# Altium schematic symbol library RK3399Pro.SchLib: 1 symbol
Pins are listed as number, name and electrical type; pins without a type are passive.

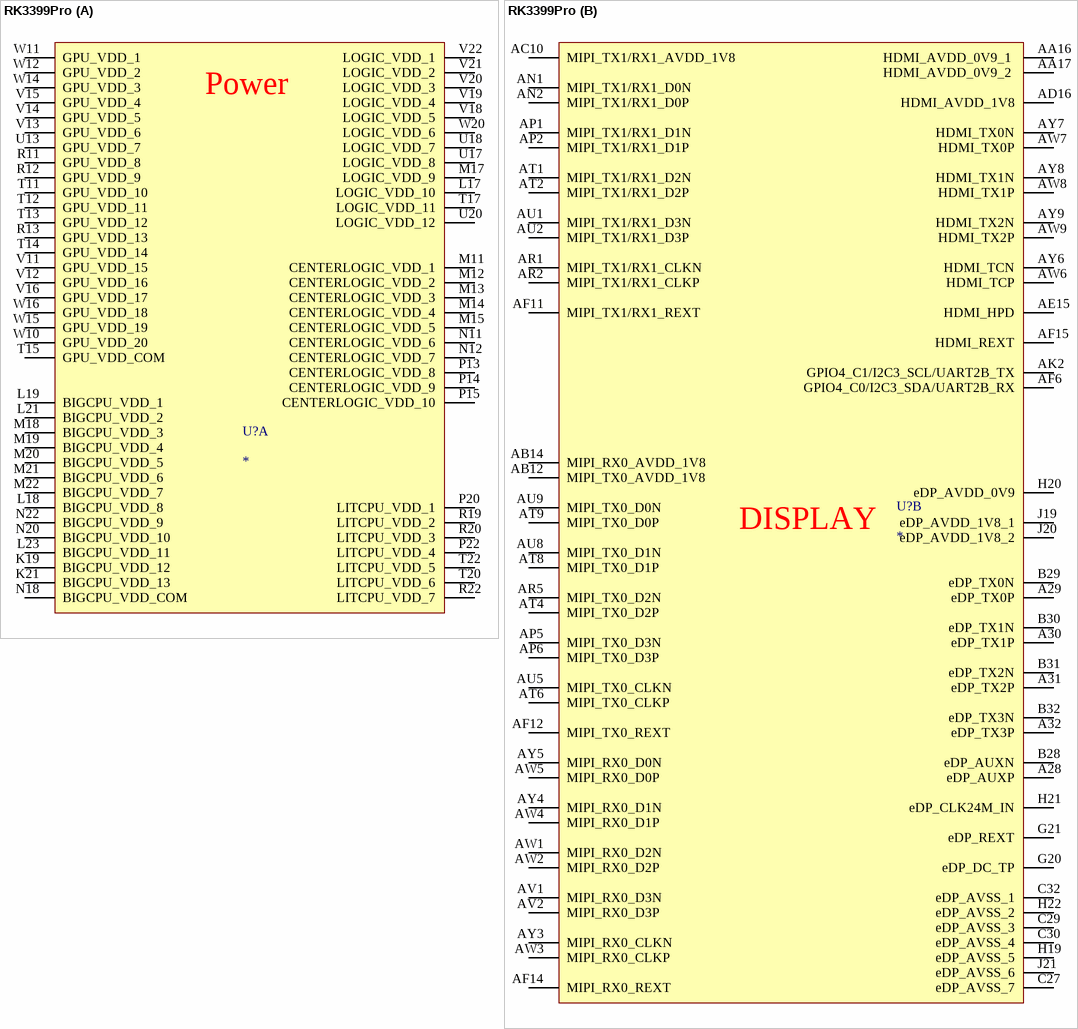
[diagram p0: symbol RK3399Pro]

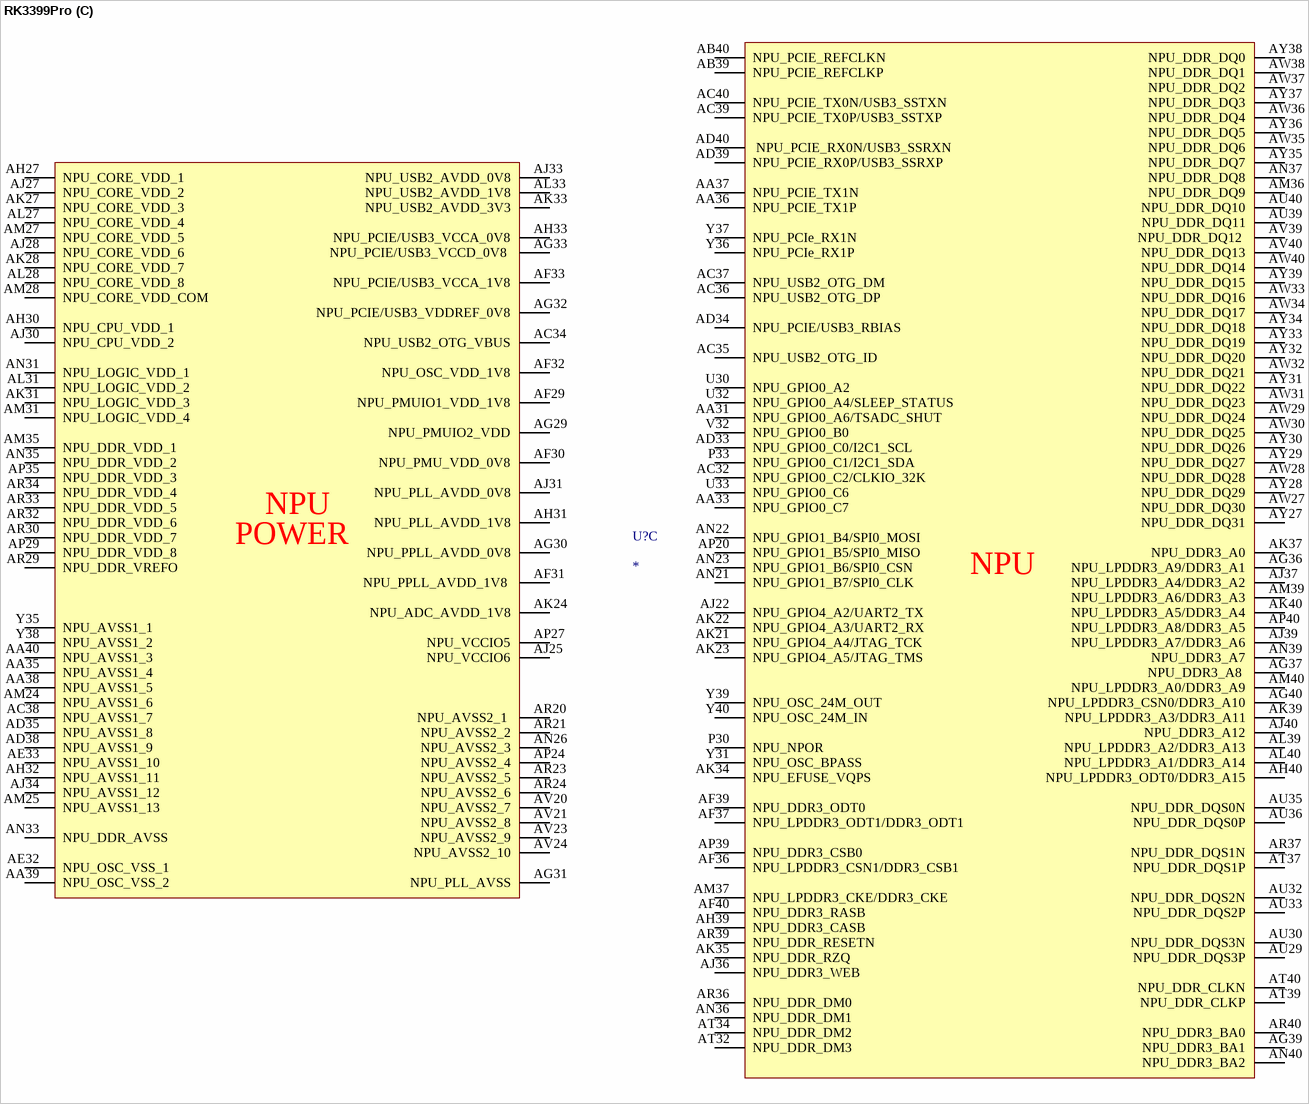
[diagram p1: symbol RK3399Pro]

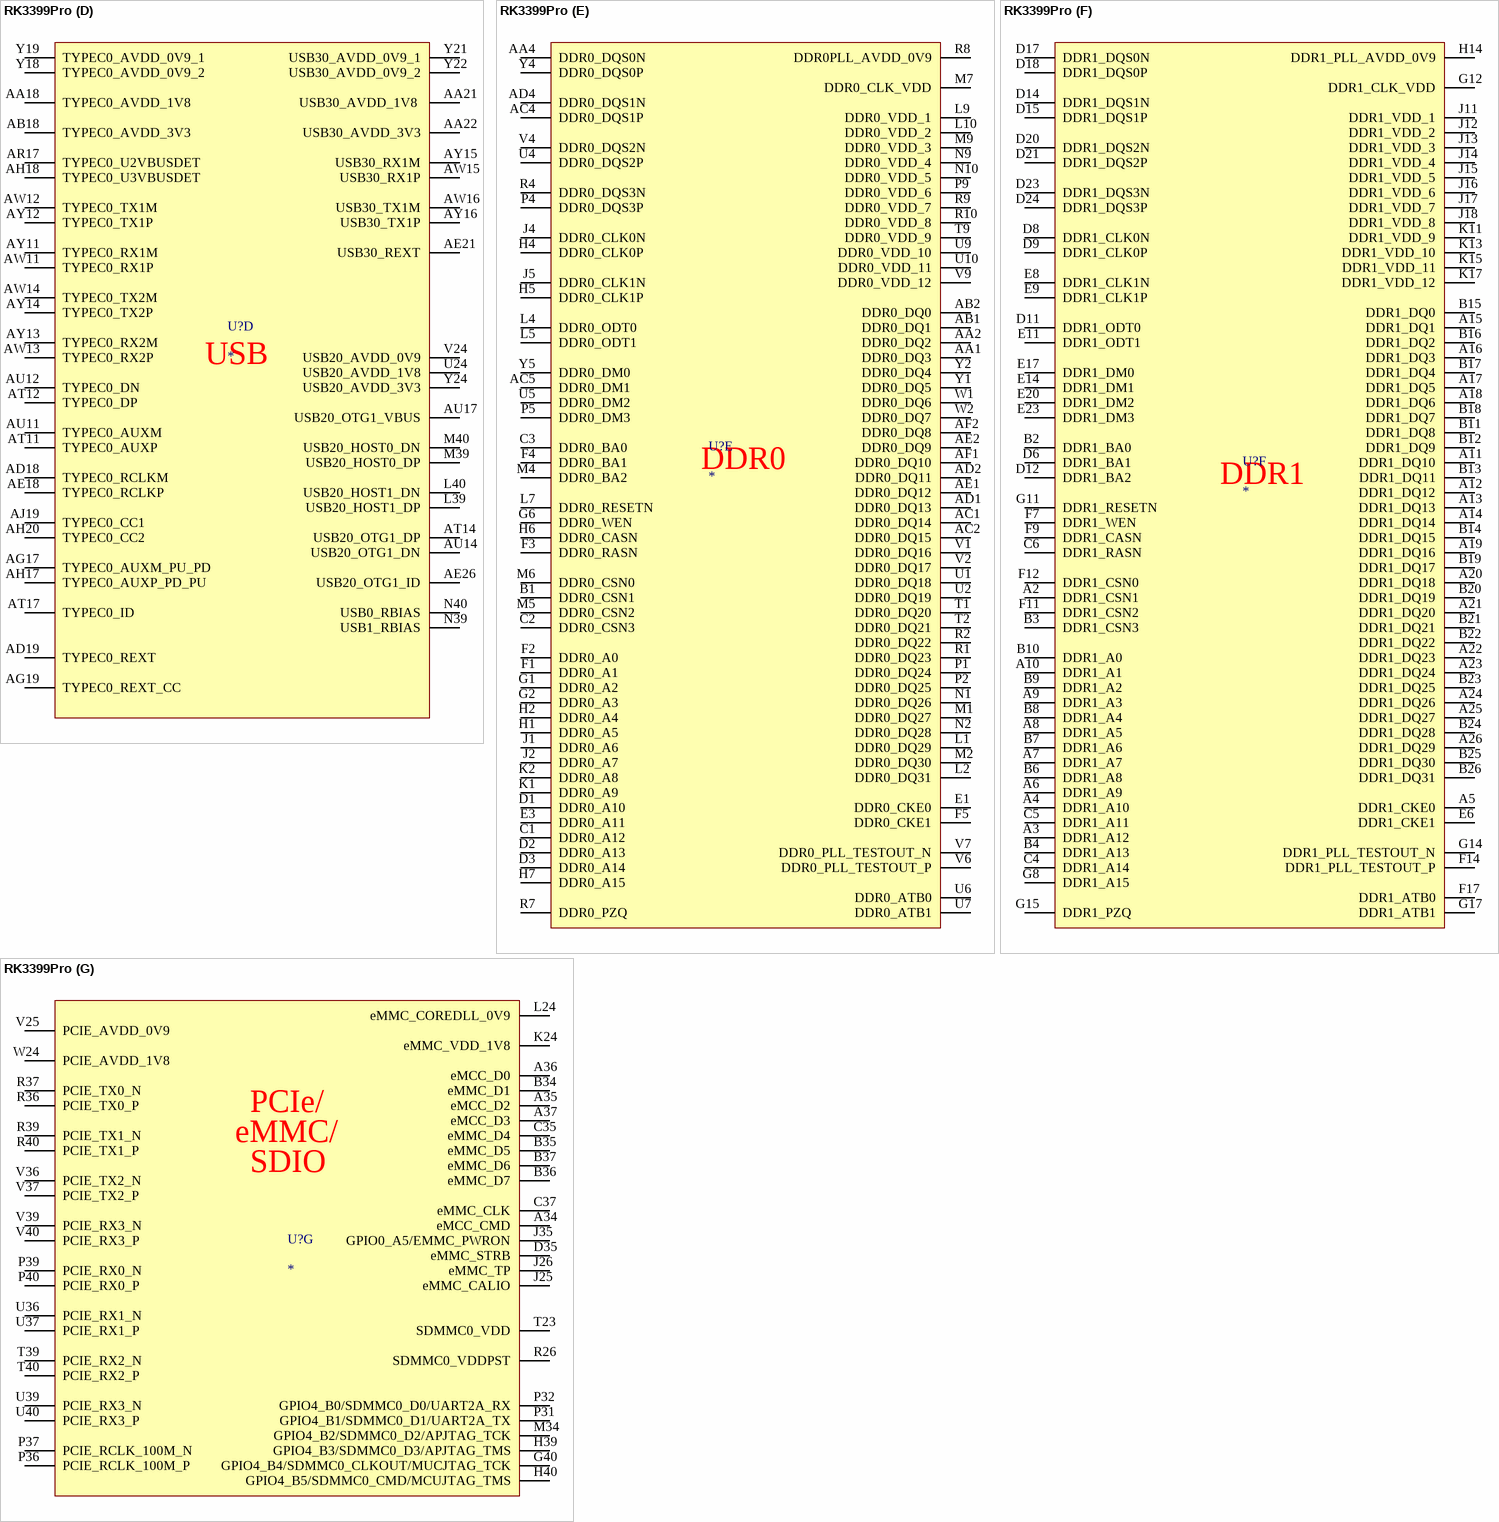
[diagram p2: symbol RK3399Pro]

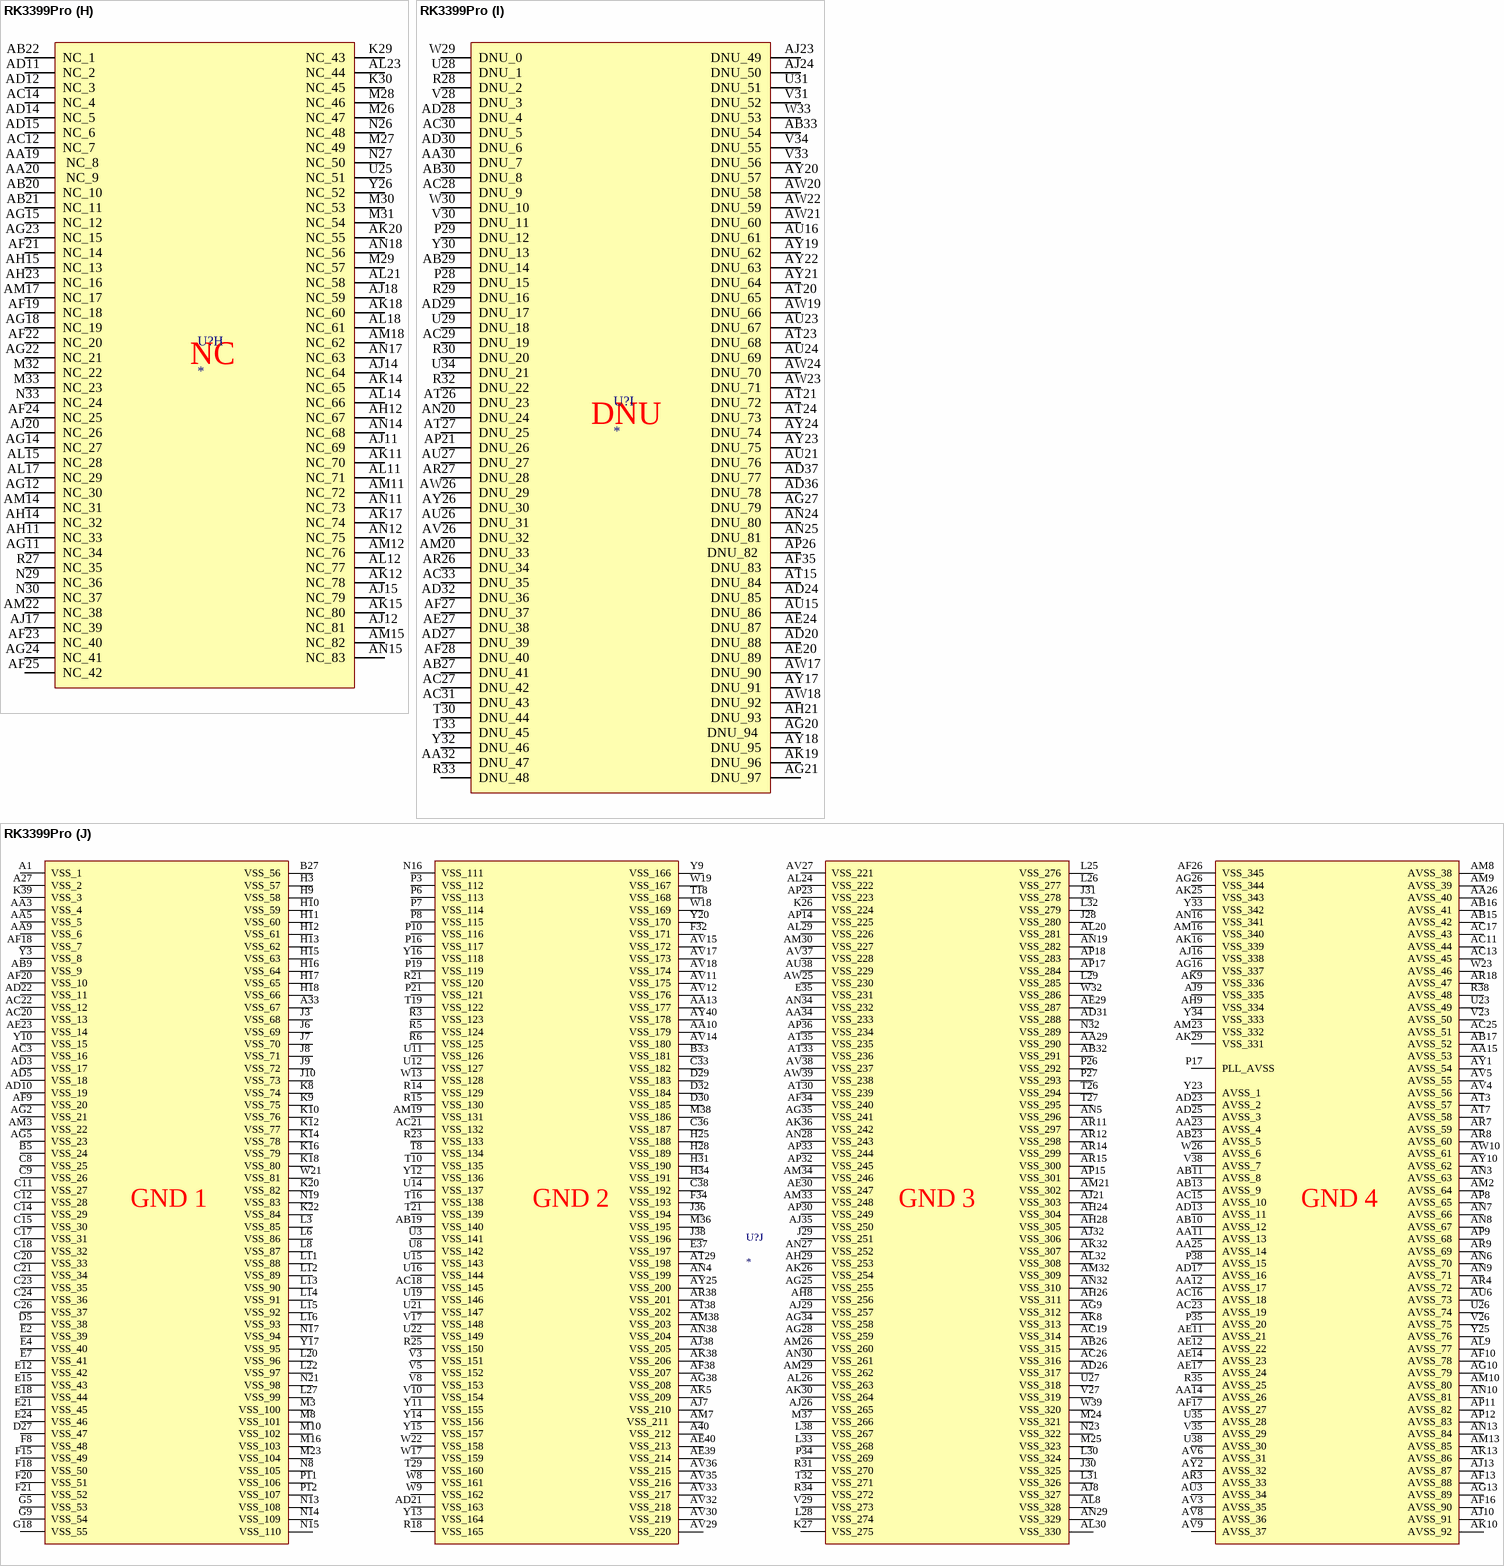
[diagram p3: symbol RK3399Pro]

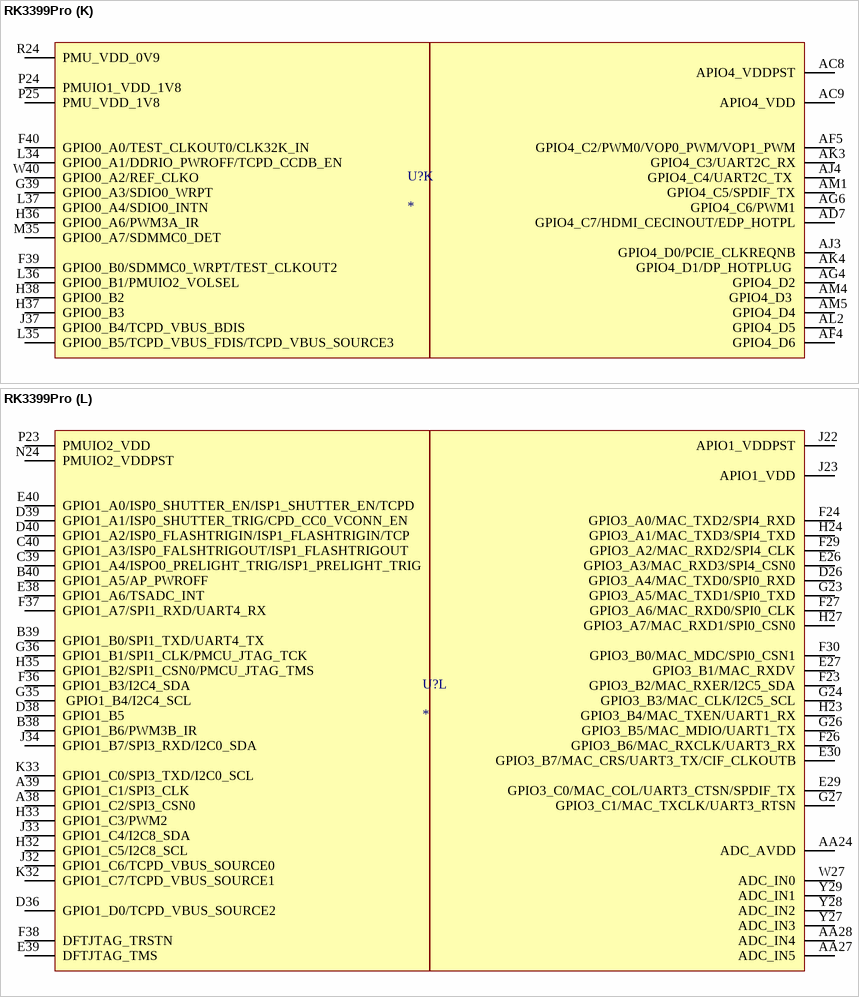
[diagram p4: symbol RK3399Pro]

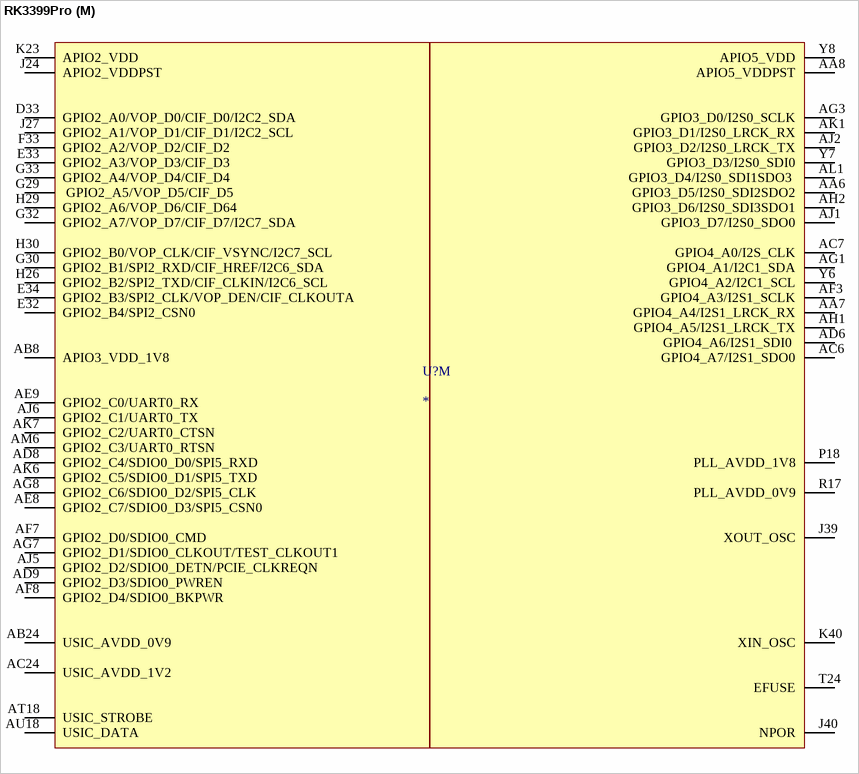
[diagram p5: symbol RK3399Pro]

## RK3399Pro
designator U?
part A pins: K19 BIGCPU_VDD_12, K21 BIGCPU_VDD_13, L17 LOGIC_VDD_10, L18 BIGCPU_VDD_8, L19 BIGCPU_VDD_1, L21 BIGCPU_VDD_2, L23 BIGCPU_VDD_11, M11 CENTERLOGIC_VDD_1, M12 CENTERLOGIC_VDD_2, M13 CENTERLOGIC_VDD_3, M14 CENTERLOGIC_VDD_4, M15 CENTERLOGIC_VDD_5, M17 LOGIC_VDD_9, M18 BIGCPU_VDD_3, M19 BIGCPU_VDD_4, M20 BIGCPU_VDD_5, M21 BIGCPU_VDD_6, M22 BIGCPU_VDD_7, N11 CENTERLOGIC_VDD_6, N12 CENTERLOGIC_VDD_7, N18 BIGCPU_VDD_COM, N20 BIGCPU_VDD_10, N22 BIGCPU_VDD_9, P13 CENTERLOGIC_VDD_8, P14 CENTERLOGIC_VDD_9, P15 CENTERLOGIC_VDD_10, P20 LITCPU_VDD_1, P22 LITCPU_VDD_4, R11 GPU_VDD_8, R12 GPU_VDD_9, R13 GPU_VDD_13, R19 LITCPU_VDD_2, R20 LITCPU_VDD_3, R22 LITCPU_VDD_7, T11 GPU_VDD_10, T12 GPU_VDD_11, T13 GPU_VDD_12, T14 GPU_VDD_14, T15 GPU_VDD_COM, T17 LOGIC_VDD_11, T20 LITCPU_VDD_6, T22 LITCPU_VDD_5, U13 GPU_VDD_7, U17 LOGIC_VDD_8, U18 LOGIC_VDD_7, U20 LOGIC_VDD_12, V11 GPU_VDD_15, V12 GPU_VDD_16, V13 GPU_VDD_6, V14 GPU_VDD_5, V15 GPU_VDD_4, V16 GPU_VDD_17, V18 LOGIC_VDD_5, V19 LOGIC_VDD_4, V20 LOGIC_VDD_3, V21 LOGIC_VDD_2, V22 LOGIC_VDD_1, W10 GPU_VDD_20, W11 GPU_VDD_1, W12 GPU_VDD_2, W14 GPU_VDD_3, W15 GPU_VDD_19, W16 GPU_VDD_18, W20 LOGIC_VDD_6
part B pins: A28 eDP_AUXP, A29 eDP_TX0P, A30 eDP_TX1P, A31 eDP_TX2P, A32 eDP_TX3P, AA16 HDMI_AVDD_0V9_1 , AA17 HDMI_AVDD_0V9_2 , AB12 MIPI_TX0_AVDD_1V8 , AB14 MIPI_RX0_AVDD_1V8, AC10 MIPI_TX1/RX1_AVDD_1V8, AD16 HDMI_AVDD_1V8, AE15 HDMI_HPD, AF6 GPIO4_C0/I2C3_SDA/UART2B_RX, AF11 MIPI_TX1/RX1_REXT, AF12 MIPI_TX0_REXT, AF14 MIPI_RX0_REXT, AF15 HDMI_REXT, AK2 GPIO4_C1/I2C3_SCL/UART2B_TX, AN1 MIPI_TX1/RX1_D0N, AN2 MIPI_TX1/RX1_D0P, AP1 MIPI_TX1/RX1_D1N, AP2 MIPI_TX1/RX1_D1P, AP5 MIPI_TX0_D3N, AP6 MIPI_TX0_D3P, AR1 MIPI_TX1/RX1_CLKN, AR2 MIPI_TX1/RX1_CLKP, AR5 MIPI_TX0_D2N, AT1 MIPI_TX1/RX1_D2N, AT2 MIPI_TX1/RX1_D2P, AT4 MIPI_TX0_D2P, AT6 MIPI_TX0_CLKP, AT8 MIPI_TX0_D1P, AT9 MIPI_TX0_D0P, AU1 MIPI_TX1/RX1_D3N, AU2 MIPI_TX1/RX1_D3P, AU5 MIPI_TX0_CLKN, AU8 MIPI_TX0_D1N, AU9 MIPI_TX0_D0N, AV1 MIPI_RX0_D3N, AV2 MIPI_RX0_D3P, AW1 MIPI_RX0_D2N, AW2 MIPI_RX0_D2P, AW3 MIPI_RX0_CLKP, AW4 MIPI_RX0_D1P, AW5 MIPI_RX0_D0P, AW6 HDMI_TCP, AW7 HDMI_TX0P, AW8 HDMI_TX1P, AW9 HDMI_TX2P, AY3 MIPI_RX0_CLKN, AY4 MIPI_RX0_D1N, AY5 MIPI_RX0_D0N, AY6 HDMI_TCN, AY7 HDMI_TX0N, AY8 HDMI_TX1N, AY9 HDMI_TX2N, B28 eDP_AUXN, B29 eDP_TX0N, B30 eDP_TX1N, B31 eDP_TX2N, B32 eDP_TX3N, C27 eDP_AVSS_7, C29 eDP_AVSS_3, C30 eDP_AVSS_4, C32 eDP_AVSS_1, G20 eDP_DC_TP, G21 eDP_REXT, H19 eDP_AVSS_5, H20 eDP_AVDD_0V9, H21 eDP_CLK24M_IN, H22 eDP_AVSS_2, J19 eDP_AVDD_1V8_1, J20 eDP_AVDD_1V8_2, J21 eDP_AVSS_6
part C pins: AA31 NPU_GPIO0_A6/TSADC_SHUT, AA33 NPU_GPIO0_C7 , AA35 NPU_AVSS1_4, AA36 NPU_PCIE_TX1P, AA37 NPU_PCIE_TX1N, AA38 NPU_AVSS1_5, AA39 NPU_OSC_VSS_2, AA40 NPU_AVSS1_3, AB39 NPU_PCIE_REFCLKP , AB40 NPU_PCIE_REFCLKN , AC32 NPU_GPIO0_C2/CLKIO_32K, AC34 NPU_USB2_OTG_VBUS, AC35 NPU_USB2_OTG_ID, AC36 NPU_USB2_OTG_DP , AC37 NPU_USB2_OTG_DM , AC38 NPU_AVSS1_7, AC39 NPU_PCIE_TX0P/USB3_SSTXP, AC40 NPU_PCIE_TX0N/USB3_SSTXN, AD33 NPU_GPIO0_C0/I2C1_SCL, AD34 NPU_PCIE/USB3_RBIAS, AD35 NPU_AVSS1_8, AD38 NPU_AVSS1_9, AD39 NPU_PCIE_RX0P/USB3_SSRXP, AD40  NPU_PCIE_RX0N/USB3_SSRXN, AE32 NPU_OSC_VSS_1, AE33 NPU_AVSS1_10, AF29 NPU_PMUIO1_VDD_1V8, AF30 NPU_PMU_VDD_0V8, AF31 NPU_PPLL_AVDD_1V8 , AF32 NPU_OSC_VDD_1V8, AF33 NPU_PCIE/USB3_VCCA_1V8, AF36 NPU_LPDDR3_CSN1/DDR3_CSB1, AF37 NPU_LPDDR3_ODT1/DDR3_ODT1, AF39 NPU_DDR3_ODT0, AF40 NPU_DDR3_RASB, AG29 NPU_PMUIO2_VDD, AG30 NPU_PPLL_AVDD_0V8, AG31 NPU_PLL_AVSS, AG32 NPU_PCIE/USB3_VDDREF_0V8, AG33 NPU_PCIE/USB3_VCCD_0V8 , AG36 NPU_LPDDR3_A9/DDR3_A1, AG37 NPU_DDR3_A8 , AG39 NPU_DDR3_BA1, AG40 NPU_LPDDR3_CSN0/DDR3_A10, AH27 NPU_CORE_VDD_1, AH30 NPU_CPU_VDD_1, AH31 NPU_PLL_AVDD_1V8, AH32 NPU_AVSS1_11, AH33 NPU_PCIE/USB3_VCCA_0V8, AH39 NPU_DDR3_CASB, AH40 NPU_LPDDR3_ODT0/DDR3_A15, AJ22 NPU_GPIO4_A2/UART2_TX, AJ25 NPU_VCCIO6, AJ27 NPU_CORE_VDD_2, AJ28 NPU_CORE_VDD_6, AJ30 NPU_CPU_VDD_2, AJ31 NPU_PLL_AVDD_0V8, AJ33 NPU_USB2_AVDD_0V8, AJ34 NPU_AVSS1_12, AJ36 NPU_DDR3_WEB, AJ37 NPU_LPDDR3_A4/DDR3_A2, AJ39 NPU_LPDDR3_A7/DDR3_A6, AJ40 NPU_DDR3_A12, AK21 NPU_GPIO4_A4/JTAG_TCK , AK22 NPU_GPIO4_A3/UART2_RX, AK23 NPU_GPIO4_A5/JTAG_TMS, AK24 NPU_ADC_AVDD_1V8, AK27 NPU_CORE_VDD_3, AK28 NPU_CORE_VDD_7, AK31 NPU_LOGIC_VDD_3, AK33 NPU_USB2_AVDD_3V3, AK34 NPU_EFUSE_VQPS, AK35 NPU_DDR_RZQ, AK37 NPU_DDR3_A0, AK39 NPU_LPDDR3_A3/DDR3_A11, AK40 NPU_LPDDR3_A5/DDR3_A4, AL27 NPU_CORE_VDD_4, AL28 NPU_CORE_VDD_8, AL31 NPU_LOGIC_VDD_2, AL33 NPU_USB2_AVDD_1V8, AL39 NPU_LPDDR3_A2/DDR3_A13, AL40 NPU_LPDDR3_A1/DDR3_A14, AM24 NPU_AVSS1_6, AM25 NPU_AVSS1_13, AM27 NPU_CORE_VDD_5, AM28 NPU_CORE_VDD_COM, AM31 NPU_LOGIC_VDD_4, AM35 NPU_DDR_VDD_1, AM36 NPU_DDR_DQ9, AM37 NPU_LPDDR3_CKE/DDR3_CKE, AM39 NPU_LPDDR3_A6/DDR3_A3, AM40 NPU_LPDDR3_A0/DDR3_A9, AN21 NPU_GPIO1_B7/SPI0_CLK, AN22 NPU_GPIO1_B4/SPI0_MOSI , AN23 NPU_GPIO1_B6/SPI0_CSN , AN26 NPU_AVSS2_3, AN31 NPU_LOGIC_VDD_1, AN33 NPU_DDR_AVSS, AN35 NPU_DDR_VDD_2, AN36 NPU_DDR_DM1, AN37 NPU_DDR_DQ8, AN39 NPU_DDR3_A7, AN40 NPU_DDR3_BA2, AP20 NPU_GPIO1_B5/SPI0_MISO , AP24 NPU_AVSS2_4, AP27 NPU_VCCIO5, AP29 NPU_DDR_VDD_8 , AP35 NPU_DDR_VDD_3, AP39 NPU_DDR3_CSB0 , AP40 NPU_LPDDR3_A8/DDR3_A5, AR20 NPU_AVSS2_1 , AR21 NPU_AVSS2_2, AR23 NPU_AVSS2_5, AR24 NPU_AVSS2_6, AR29 NPU_DDR_VREFO, AR30 NPU_DDR_VDD_7, AR32 NPU_DDR_VDD_6, AR33 NPU_DDR_VDD_5, AR34 NPU_DDR_VDD_4, AR36 NPU_DDR_DM0, AR37 NPU_DDR_DQS1N, AR39 NPU_DDR_RESETN, AR40 NPU_DDR3_BA0, AT32 NPU_DDR_DM3, AT34 NPU_DDR_DM2, AT37 NPU_DDR_DQS1P, AT39 NPU_DDR_CLKP, AT40 NPU_DDR_CLKN, AU29 NPU_DDR_DQS3P, AU30 NPU_DDR_DQS3N, AU32 NPU_DDR_DQS2N, AU33 NPU_DDR_DQS2P, AU35 NPU_DDR_DQS0N, AU36 NPU_DDR_DQS0P, AU39 NPU_DDR_DQ11, AU40 NPU_DDR_DQ10, AV20 NPU_AVSS2_7, AV21 NPU_AVSS2_8, AV23 NPU_AVSS2_9, AV24 NPU_AVSS2_10, AV39 NPU_DDR_DQ12 , AV40 NPU_DDR_DQ13, AW27 NPU_DDR_DQ30, AW28 NPU_DDR_DQ28, AW29 NPU_DDR_DQ24, AW30 NPU_DDR_DQ25, AW31 NPU_DDR_DQ23, AW32 NPU_DDR_DQ21, AW33 NPU_DDR_DQ16, AW34 NPU_DDR_DQ17, AW35 NPU_DDR_DQ6, AW36 NPU_DDR_DQ4, AW37 NPU_DDR_DQ2, AW38 NPU_DDR_DQ1, AW40 NPU_DDR_DQ14, AY27 NPU_DDR_DQ31, AY28 NPU_DDR_DQ29, AY29 NPU_DDR_DQ27, AY30 NPU_DDR_DQ26, AY31 NPU_DDR_DQ22, AY32 NPU_DDR_DQ20, AY33 NPU_DDR_DQ19, AY34 NPU_DDR_DQ18, AY35 NPU_DDR_DQ7, AY36 NPU_DDR_DQ5, AY37 NPU_DDR_DQ3, AY38 NPU_DDR_DQ0, AY39 NPU_DDR_DQ15, P30 NPU_NPOR, P33 NPU_GPIO0_C1/I2C1_SDA, U30 NPU_GPIO0_A2, U32 NPU_GPIO0_A4/SLEEP_STATUS, U33 NPU_GPIO0_C6, V32 NPU_GPIO0_B0, Y31 NPU_OSC_BPASS, Y35 NPU_AVSS1_1, Y36 NPU_PCIe_RX1P, Y37 NPU_PCIe_RX1N, Y38 NPU_AVSS1_2, Y39 NPU_OSC_24M_OUT, Y40 NPU_OSC_24M_IN
part D pins: AA18 TYPEC0_AVDD_1V8 , AA21 USB30_AVDD_1V8 , AA22 USB30_AVDD_3V3, AB18 TYPEC0_AVDD_3V3, AD18 TYPEC0_RCLKM, AD19 TYPEC0_REXT, AE18 TYPEC0_RCLKP, AE21 USB30_REXT, AE26 USB20_OTG1_ID, AG17 TYPEC0_AUXM_PU_PD, AG19 TYPEC0_REXT_CC, AH17 TYPEC0_AUXP_PD_PU, AH18 TYPEC0_U3VBUSDET, AH20 TYPEC0_CC2, AJ19 TYPEC0_CC1 , AR17 TYPEC0_U2VBUSDET, AT11 TYPEC0_AUXP, AT12 TYPEC0_DP, AT14 USB20_OTG1_DP, AT17 TYPEC0_ID, AU11 TYPEC0_AUXM, AU12 TYPEC0_DN, AU14 USB20_OTG1_DN, AU17 USB20_OTG1_VBUS, AW11 TYPEC0_RX1P, AW12 TYPEC0_TX1M, AW13 TYPEC0_RX2P, AW14 TYPEC0_TX2M, AW15 USB30_RX1P, AW16 USB30_TX1M, AY11 TYPEC0_RX1M, AY12 TYPEC0_TX1P, AY13 TYPEC0_RX2M, AY14 TYPEC0_TX2P, AY15 USB30_RX1M, AY16 USB30_TX1P, L39 USB20_HOST1_DP, L40 USB20_HOST1_DN, M39 USB20_HOST0_DP, M40 USB20_HOST0_DN, N39 USB1_RBIAS, N40 USB0_RBIAS, U24 USB20_AVDD_1V8, V24 USB20_AVDD_0V9, Y18 TYPEC0_AVDD_0V9_2, Y19 TYPEC0_AVDD_0V9_1, Y21 USB30_AVDD_0V9_1, Y22 USB30_AVDD_0V9_2, Y24 USB20_AVDD_3V3
part E pins: AA1 DDR0_DQ3, AA2 DDR0_DQ2, AA4 DDR0_DQS0N, AB1 DDR0_DQ1, AB2 DDR0_DQ0, AC1 DDR0_DQ14, AC2 DDR0_DQ15, AC4 DDR0_DQS1P, AC5 DDR0_DM1, AD1 DDR0_DQ13, AD2 DDR0_DQ11, AD4 DDR0_DQS1N, AE1 DDR0_DQ12, AE2 DDR0_DQ9, AF1 DDR0_DQ10, AF2 DDR0_DQ8, B1 DDR0_CSN1, C1 DDR0_A12, C2 DDR0_CSN3, C3 DDR0_BA0, D1 DDR0_A10, D2 DDR0_A13, D3 DDR0_A14, E1 DDR0_CKE0, E3 DDR0_A11, F1 DDR0_A1, F2 DDR0_A0, F3 DDR0_RASN, F4 DDR0_BA1, F5 DDR0_CKE1, G1 DDR0_A2, G2 DDR0_A3, G6 DDR0_WEN, H1 DDR0_A5, H2 DDR0_A4, H4 DDR0_CLK0P, H5 DDR0_CLK1P, H6 DDR0_CASN, H7 DDR0_A15, J1 DDR0_A6, J2 DDR0_A7, J4 DDR0_CLK0N, J5 DDR0_CLK1N, K1 DDR0_A9, K2 DDR0_A8, L1 DDR0_DQ29, L2 DDR0_DQ31, L4 DDR0_ODT0, L5 DDR0_ODT1, L7 DDR0_RESETN, L9 DDR0_VDD_1, L10 DDR0_VDD_2, M1 DDR0_DQ27, M2 DDR0_DQ30, M4 DDR0_BA2, M5 DDR0_CSN2, M6 DDR0_CSN0, M7 DDR0_CLK_VDD, M9 DDR0_VDD_3, N1 DDR0_DQ26, N2 DDR0_DQ28, N9 DDR0_VDD_4, N10 DDR0_VDD_5, P1 DDR0_DQ24, P2 DDR0_DQ25, P4 DDR0_DQS3P, P5 DDR0_DM3, P9 DDR0_VDD_6, R1 DDR0_DQ23, R2 DDR0_DQ22, R4 DDR0_DQS3N, R7 DDR0_PZQ, R8 DDR0PLL_AVDD_0V9, R9 DDR0_VDD_7, R10 DDR0_VDD_8, T1 DDR0_DQ20, T2 DDR0_DQ21, T9 DDR0_VDD_9, U1 DDR0_DQ18, U2 DDR0_DQ19, U4 DDR0_DQS2P, U5 DDR0_DM2, U6 DDR0_ATB0, U7 DDR0_ATB1, U9 DDR0_VDD_10, U10 DDR0_VDD_11, V1 DDR0_DQ16, V2 DDR0_DQ17, V4 DDR0_DQS2N, V6 DDR0_PLL_TESTOUT_P, V7 DDR0_PLL_TESTOUT_N, V9 DDR0_VDD_12, W1 DDR0_DQ6, W2 DDR0_DQ7, Y1 DDR0_DQ5, Y2 DDR0_DQ4, Y4 DDR0_DQS0P, Y5 DDR0_DM0
part F pins: A2 DDR1_CSN1, A3 DDR1_A12, A4 DDR1_A10, A5 DDR1_CKE0, A6 DDR1_A9, A7 DDR1_A7, A8 DDR1_A5, A9 DDR1_A3, A10 DDR1_A1, A11 DDR1_DQ10, A12 DDR1_DQ12, A13 DDR1_DQ13, A14 DDR1_DQ14, A15 DDR1_DQ1, A16 DDR1_DQ3, A17 DDR1_DQ5, A18 DDR1_DQ6, A19 DDR1_DQ16, A20 DDR1_DQ18, A21 DDR1_DQ20, A22 DDR1_DQ23, A23 DDR1_DQ24, A24 DDR1_DQ26, A25 DDR1_DQ27, A26 DDR1_DQ29, B2 DDR1_BA0, B3 DDR1_CSN3, B4 DDR1_A13, B6 DDR1_A8, B7 DDR1_A6, B8 DDR1_A4, B9 DDR1_A2, B10 DDR1_A0, B11 DDR1_DQ8, B12 DDR1_DQ9, B13 DDR1_DQ11, B14 DDR1_DQ15, B15 DDR1_DQ0, B16 DDR1_DQ2, B17 DDR1_DQ4, B18 DDR1_DQ7, B19 DDR1_DQ17, B20 DDR1_DQ19, B21 DDR1_DQ21, B22 DDR1_DQ22, B23 DDR1_DQ25, B24 DDR1_DQ28, B25 DDR1_DQ30, B26 DDR1_DQ31, C4 DDR1_A14, C5 DDR1_A11, C6 DDR1_RASN, D6 DDR1_BA1, D8 DDR1_CLK0N, D9 DDR1_CLK0P, D11 DDR1_ODT0, D12 DDR1_BA2, D14 DDR1_DQS1N, D15 DDR1_DQS1P, D17 DDR1_DQS0N, D18 DDR1_DQS0P, D20 DDR1_DQS2N, D21 DDR1_DQS2P, D23 DDR1_DQS3N, D24 DDR1_DQS3P, E6 DDR1_CKE1, E8 DDR1_CLK1N, E9 DDR1_CLK1P, E11 DDR1_ODT1, E14 DDR1_DM1, E17 DDR1_DM0, E20 DDR1_DM2, E23 DDR1_DM3, F7 DDR1_WEN, F9 DDR1_CASN, F11 DDR1_CSN2, F12 DDR1_CSN0, F14 DDR1_PLL_TESTOUT_P, F17 DDR1_ATB0, G8 DDR1_A15, G11 DDR1_RESETN, G12 DDR1_CLK_VDD, G14 DDR1_PLL_TESTOUT_N, G15 DDR1_PZQ, G17 DDR1_ATB1, H14 DDR1_PLL_AVDD_0V9, J11 DDR1_VDD_1, J12 DDR1_VDD_2, J13 DDR1_VDD_3, J14 DDR1_VDD_4, J15 DDR1_VDD_5, J16 DDR1_VDD_6, J17 DDR1_VDD_7, J18 DDR1_VDD_8, K11 DDR1_VDD_9, K13 DDR1_VDD_10, K15 DDR1_VDD_11, K17 DDR1_VDD_12
part G pins: A34 eMCC_CMD, A35 eMCC_D2, A36 eMCC_D0, A37 eMCC_D3, B34 eMMC_D1, B35 eMMC_D5, B36 eMMC_D7, B37 eMMC_D6, C35 eMMC_D4, C37 eMMC_CLK, D35 eMMC_STRB, G40 GPIO4_B4/SDMMC0_CLKOUT/MUCJTAG_TCK, H39 GPIO4_B3/SDMMC0_D3/APJTAG_TMS, H40 GPIO4_B5/SDMMC0_CMD/MCUJTAG_TMS, J25 eMMC_CALIO, J26 eMMC_TP, J35 GPIO0_A5/EMMC_PWRON, K24 eMMC_VDD_1V8, L24 eMMC_COREDLL_0V9, M34 GPIO4_B2/SDMMC0_D2/APJTAG_TCK, P31 GPIO4_B1/SDMMC0_D1/UART2A_TX, P32 GPIO4_B0/SDMMC0_D0/UART2A_RX, P36 PCIE_RCLK_100M_P, P37 PCIE_RCLK_100M_N, P39 PCIE_RX0_N, P40 PCIE_RX0_P, R26 SDMMC0_VDDPST, R36 PCIE_TX0_P, R37 PCIE_TX0_N, R39 PCIE_TX1_N, R40 PCIE_TX1_P, T23 SDMMC0_VDD, T39 PCIE_RX2_N, T40 PCIE_RX2_P, U36 PCIE_RX1_N, U37 PCIE_RX1_P, U39 PCIE_RX3_N, U40 PCIE_RX3_P, V25 PCIE_AVDD_0V9, V36 PCIE_TX2_N, V37 PCIE_TX2_P, V39 PCIE_RX3_N, V40 PCIE_RX3_P, W24 PCIE_AVDD_1V8
part H pins: AA19  NC_8, AA20  NC_9, AB20 NC_10, AB21 NC_11, AB22 NC_1, AC12 NC_7, AC14 NC_4, AD11 NC_2, AD12 NC_3, AD14 NC_5, AD15 NC_6, AF19 NC_18 , AF21 NC_14, AF22 NC_20, AF23 NC_40, AF24 NC_25, AF25 NC_42, AG11 NC_34, AG12 NC_30, AG14 NC_27, AG15 NC_12, AG18 NC_19, AG22 NC_21, AG23 NC_15, AG24 NC_41, AH11 NC_33, AH12 NC_67, AH14 NC_32, AH15 NC_13, AH23 NC_16, AJ11 NC_69, AJ12 NC_81, AJ14 NC_64, AJ15 NC_79, AJ17 NC_39, AJ18 NC_59, AJ20 NC_26, AK11 NC_70, AK12 NC_78, AK14 NC_65, AK15 NC_80, AK17 NC_74, AK18 NC_60, AK20 NC_55, AL11 NC_71, AL12 NC_77, AL14 NC_66, AL15 NC_28, AL17 NC_29, AL18 NC_61, AL21 NC_58, AL23 NC_44, AM11 NC_72, AM12 NC_76, AM14 NC_31, AM15 NC_82, AM17 NC_17, AM18 NC_62, AM22 NC_38, AN11 NC_73, AN12 NC_75, AN14 NC_68, AN15 NC_83, AN17 NC_63, AN18 NC_56, K29 NC_43, K30 NC_45, M26 NC_47, M27 NC_49, M28 NC_46, M29 NC_57, M30 NC_53, M31 NC_54, M32 NC_22, M33 NC_23, N26 NC_48, N27 NC_50, N29 NC_36, N30 NC_37, N33 NC_24, R27 NC_35, U25 NC_51, Y26 NC_52
part I pins: AA30 DNU_7, AA32 DNU_47, AB27 DNU_41, AB29 DNU_14, AB30 DNU_8, AB33 DNU_54, AC27 DNU_42, AC28 DNU_9, AC29 DNU_19, AC30 DNU_5, AC31 DNU_43, AC33 DNU_35, AD20 DNU_88, AD24 DNU_85, AD27 DNU_39, AD28 DNU_4, AD29 DNU_17, AD30 DNU_6, AD32 DNU_36, AD36 DNU_78, AD37 DNU_77, AE20 DNU_89, AE24 DNU_87, AE27 DNU_38 , AF27 DNU_37 , AF28 DNU_40, AF35 DNU_83, AG20 DNU_94 , AG21 DNU_97, AG27 DNU_79, AH21 DNU_93, AJ23 DNU_49, AJ24 DNU_50, AK19 DNU_96, AM20 DNU_33, AN20 DNU_24, AN24 DNU_80, AN25 DNU_81, AP21 DNU_26, AP26 DNU_82 , AR26 DNU_34, AR27 DNU_28, AT15 DNU_84, AT20 DNU_65, AT21 DNU_72, AT23 DNU_68, AT24 DNU_73, AT26 DNU_23, AT27 DNU_25, AU15 DNU_86, AU16 DNU_61, AU21 DNU_76, AU23 DNU_67, AU24 DNU_69, AU26 DNU_31, AU27 DNU_27, AV26 DNU_32, AW17 DNU_90, AW18 DNU_92, AW19 DNU_66, AW20 DNU_58, AW21 DNU_60, AW22 DNU_59, AW23 DNU_71, AW24 DNU_70, AW26 DNU_29, AY17 DNU_91, AY18 DNU_95, AY19 DNU_62, AY20 DNU_57, AY21 DNU_64, AY22 DNU_63, AY23 DNU_75, AY24 DNU_74, AY26 DNU_30, P28 DNU_15, P29 DNU_12, R28 DNU_2, R29 DNU_16, R30 DNU_20, R32 DNU_22, R33 DNU_48, T30 DNU_44, T33 DNU_45, U28 DNU_1, U29 DNU_18, U31 DNU_51, U34 DNU_21, V28 DNU_3, V30 DNU_11, V31 DNU_52, V33 DNU_56, V34 DNU_55, W29 DNU_0, W30 DNU_10, W33 DNU_53, Y30 DNU_13, Y32 DNU_46
part J pins: A1 VSS_1, A27 VSS_2, A33 VSS_67, A40 VSS_212, AA3 VSS_4, AA5 VSS_5, AA9 VSS_6, AA10 VSS_179, AA11 AVSS_13, AA12 AVSS_17, AA13 VSS_177, AA14 AVSS_26, AA15 AVSS_53, AA23 AVSS_4, AA25 AVSS_14, AA26 AVSS_40, AA29 VSS_290, AA34 VSS_233, AB9 VSS_9, AB10 AVSS_12, AB11 AVSS_8, AB13 AVSS_9, AB15 AVSS_42, AB16 AVSS_41, AB17 AVSS_52, AB19 VSS_140, AB23 AVSS_5, AB26 VSS_315, AB32 VSS_291, AC3 VSS_16, AC11 AVSS_44, AC13 AVSS_45, AC15 AVSS_10, AC16 AVSS_18, AC17 AVSS_43, AC18 VSS_145, AC19 VSS_314, AC20 VSS_13, AC21 VSS_132, AC22 VSS_12, AC23 AVSS_19, AC25 AVSS_51, AC26 VSS_316, AD3 VSS_17, AD5 VSS_18, AD10 VSS_19, AD13 AVSS_11, AD17 AVSS_16, AD21 VSS_163, AD22 VSS_11, AD23 AVSS_2, AD25 AVSS_3, AD26 VSS_317, AD31 VSS_288, AE11 AVSS_21, AE12 AVSS_22, AE14 AVSS_23, AE17 AVSS_24, AE23 VSS_14, AE29 VSS_287, AE30 VSS_247, AE39 VSS_214, AE40 VSS_213, AF9 VSS_20, AF10 AVSS_78, AF13 AVSS_88, AF16 AVSS_90, AF17 AVSS_27, AF18 VSS_7, AF20 VSS_10, AF26 VSS_345, AF34 VSS_240, AF38 VSS_207, AG2 VSS_21, AG5 VSS_23, AG9 VSS_312, AG10 AVSS_79, AG13 AVSS_89, AG16 VSS_337, AG25 VSS_255, AG26 VSS_344, AG28 VSS_259, AG34 VSS_258, AG35 VSS_241, AG38 VSS_208, AH8 VSS_256, AH9 VSS_334, AH24 VSS_304, AH26 VSS_311, AH28 VSS_305, AH29 VSS_253, AJ7 VSS_210, AJ8 VSS_327, AJ9 VSS_335, AJ10 AVSS_91, AJ13 AVSS_87, AJ16 VSS_338, AJ21 VSS_303, AJ26 VSS_265, AJ29 VSS_257, AJ32 VSS_306, AJ35 VSS_250, AJ38 VSS_205, AK5 VSS_209, AK8 VSS_313, AK9 VSS_336, AK10 AVSS_92, AK13 AVSS_86, AK16 VSS_339, AK25 VSS_343, AK26 VSS_254, AK29 VSS_331, AK30 VSS_264, AK32 VSS_307, AK36 VSS_242, AK38 VSS_206, AL8 VSS_328, AL9 AVSS_77, AL20 VSS_281, AL24 VSS_222, AL26 VSS_263, AL29 VSS_226, AL30 VSS_330, AL32 VSS_308, AM2 AVSS_64, AM3 VSS_22, AM7 VSS_211 , AM8 AVSS_38, AM9 AVSS_39, AM10 AVSS_80, AM13 AVSS_85, AM16 VSS_340, AM19 VSS_131, AM21 VSS_302, AM23 VSS_332, AM26 VSS_260, AM29 VSS_262, AM30 VSS_227, AM32 VSS_309, AM33 VSS_248, AM34 VSS_246, AM38 VSS_203, AN3 AVSS_63, AN4 VSS_199, AN5 VSS_296, AN6 AVSS_70, AN7 AVSS_66, AN8 AVSS_67, AN9 AVSS_71, AN10 AVSS_81, AN13 AVSS_84, AN16 VSS_341, AN19 VSS_282, AN27 VSS_252, AN28 VSS_243, AN29 VSS_329, AN30 VSS_261, AN32 VSS_310, AN34 VSS_232, AN38 VSS_204, AP8 AVSS_65, AP9 AVSS_68, AP11 AVSS_82, AP12 AVSS_83, AP14 VSS_225, AP15 VSS_301, AP17 VSS_284, AP18 VSS_283, AP23 VSS_223, AP30 VSS_249, AP32 VSS_245, AP33 VSS_244, AP36 VSS_234, AR3 AVSS_33, AR4 AVSS_72, AR7 AVSS_59, AR8 AVSS_60, AR9 AVSS_69, AR11 VSS_297, AR12 VSS_298, AR14 VSS_299, AR15 VSS_300, AR18 AVSS_47, AR38 VSS_201, AT3 AVSS_57, AT7 AVSS_58, AT29 VSS_198, AT30 VSS_239, AT33 VSS_236, AT35 VSS_235, AT38 VSS_202, AU3 AVSS_34, AU6 AVSS_73, AU38 VSS_229, AV3 AVSS_35, AV4 AVSS_56, AV5 AVSS_55, AV6 AVSS_31, AV8 AVSS_36, AV9 AVSS_37, AV11 VSS_175, AV12 VSS_176, AV14 VSS_180, AV15 VSS_172, AV17 VSS_173, AV18 VSS_174, AV27 VSS_221, AV29 VSS_220, AV30 VSS_219, AV32 VSS_218, AV33 VSS_217, AV35 VSS_216, AV36 VSS_215, AV37 VSS_228, AV38 VSS_237, AW10 AVSS_61, AW25 VSS_230, AW39 VSS_238, AY1 AVSS_54, AY2 AVSS_32, AY10 AVSS_62, AY25 VSS_200, AY40 VSS_178, B5 VSS_24, B27 VSS_56, B33 VSS_181, C8 VSS_25, C9 VSS_26, C11 VSS_27, C12 VSS_28, C14 VSS_29, C15 VSS_30, C17 VSS_31, C18 VSS_32, C20 VSS_33, C21 VSS_34, C23 VSS_35, C24 VSS_36, C26 VSS_37, C33 VSS_182, C36 VSS_187, C38 VSS_192, D5 VSS_38, D27 VSS_47, D29 VSS_183, D30 VSS_185, D32 VSS_184, E2 VSS_39, E4 VSS_40, E7 VSS_41, E12 VSS_42, E15 VSS_43, E18 VSS_44, E21 VSS_45, E24 VSS_46, E35 VSS_231, E37 VSS_197, F8 VSS_48, F15 VSS_49, F18 VSS_50, F20 VSS_51, F21 VSS_52, F32 VSS_171, F34 VSS_193, G5 VSS_53, G9 VSS_54, G18 VSS_55, H3  VSS_57, H9  VSS_58, H10  VSS_59, H11  VSS_60, H12  VSS_61, H13 VSS_62, H15 VSS_63, H16 VSS_64, H17 VSS_65, H18 VSS_66, H25 VSS_188, H28 VSS_189, H31 VSS_190, H34 VSS_191, J3 VSS_68, J6 VSS_69, J7 VSS_70, J8 VSS_71, J9 VSS_72, J10 VSS_73, J28 VSS_280, J29 VSS_251, J30 VSS_325, J31 VSS_278, J36 VSS_194, J38 VSS_196, K8 VSS_74, K9 VSS_75, K10 VSS_76, K12 VSS_77, K14 VSS_78, K16 VSS_79, K18 VSS_80, K20 VSS_82, K22 VSS_84, K26 VSS_224, K27 VSS_275, K39 VSS_3, L3 VSS_85, L6 VSS_86, L8 VSS_87, L11 VSS_88, L12 VSS_89, L13 VSS_90, L14 VSS_91, L15 VSS_92, L16 VSS_93, L20 VSS_96, L22 VSS_97, L25 VSS_276, L26 VSS_277, L27 VSS_99, L28 VSS_274, L29 VSS_285, L30 VSS_324, L31 VSS_326, L32 VSS_279, L33 VSS_268, L38 VSS_267, M3 VSS_100, M8 VSS_101, M10 VSS_102, M16 VSS_103, M23 VSS_104, M24 VSS_321, M25 VSS_323, M36 VSS_195, M37 VSS_266, M38 VSS_186, N8 VSS_105, N13 VSS_108, N14 VSS_109, N15 VSS_110, N16 VSS_111, N17 VSS_94, N19 VSS_83, N21 VSS_98, N23 VSS_322, N32 VSS_289, P3 VSS_112, P6 VSS_113, P7 VSS_114, P8 VSS_115, P10 VSS_116, P11 VSS_106, P12 VSS_107, P16 VSS_117, P17 PLL_AVSS, P19 VSS_119, P21 VSS_121, P26 VSS_292, P27 VSS_293, P34 VSS_269, P35 AVSS_20, P38 AVSS_15, R3 VSS_123, R5 VSS_124, R6 VSS_125, R14 VSS_129, R15 VSS_130, R18 VSS_165, R21 VSS_120, R23 VSS_133, R25 VSS_150, R31 VSS_270, R34 VSS_272, R35 AVSS_25, R38 AVSS_48, T8 VSS_134, T10 VSS_135, T16 VSS_138, T18 VSS_168, T19 VSS_122, T21 VSS_139, T26 VSS_294, T27 VSS_295, T29 VSS_160, T32 VSS_271, U3 VSS_141, U8 VSS_142, U11 VSS_126, U12 VSS_127, U14 VSS_137, U15 VSS_143, U16 VSS_144, U19 VSS_146, U21 VSS_147, U22 VSS_149, U23 AVSS_49, U26 AVSS_74, U27 VSS_318, U35 AVSS_28, U38 AVSS_30, V3 VSS_151, V5 VSS_152, V8 VSS_153, V10 VSS_154, V17 VSS_148, V23 AVSS_50, V26 AVSS_75, V27 VSS_319, V29 VSS_273, V35 AVSS_29, V38 AVSS_7, W8 VSS_161, W9 VSS_162, W13 VSS_128, W17 VSS_159, W18 VSS_169, W19 VSS_167, W21 VSS_81, W22 VSS_158, W23 AVSS_46, W26 AVSS_6, W32 VSS_286, W39 VSS_320, Y3 VSS_8, Y9 VSS_166, Y10 VSS_15, Y11 VSS_155, Y12 VSS_136, Y13 VSS_164, Y14 VSS_156, Y15 VSS_157, Y16 VSS_118, Y17 VSS_95, Y20 VSS_170, Y23 AVSS_1, Y25 AVSS_76, Y33 VSS_342, Y34 VSS_333
part K pins: AC8 APIO4_VDDPST, AC9 APIO4_VDD, AD7 GPIO4_C7/HDMI_CECINOUT/EDP_HOTPL, AF4 GPIO4_D6, AF5 GPIO4_C2/PWM0/VOP0_PWM/VOP1_PWM, AG4 GPIO4_D2, AG6 GPIO4_C6/PWM1, AJ3 GPIO4_D0/PCIE_CLKREQNB, AJ4 GPIO4_C4/UART2C_TX , AK3 GPIO4_C3/UART2C_RX, AK4 GPIO4_D1/DP_HOTPLUG , AL2 GPIO4_D5, AM1 GPIO4_C5/SPDIF_TX, AM4 GPIO4_D3 , AM5 GPIO4_D4, F39 GPIO0_B0/SDMMC0_WRPT/TEST_CLKOUT2, F40 GPIO0_A0/TEST_CLKOUT0/CLK32K_IN, G39 GPIO0_A3/SDIO0_WRPT, H36 GPIO0_A6/PWM3A_IR, H37 GPIO0_B3, H38 GPIO0_B2, J37 GPIO0_B4/TCPD_VBUS_BDIS, L34 GPIO0_A1/DDRIO_PWROFF/TCPD_CCDB_EN, L35 GPIO0_B5/TCPD_VBUS_FDIS/TCPD_VBUS_SOURCE3, L36 GPIO0_B1/PMUIO2_VOLSEL, L37 GPIO0_A4/SDIO0_INTN, M35 GPIO0_A7/SDMMC0_DET, P24 PMUIO1_VDD_1V8, P25 PMU_VDD_1V8, R24 PMU_VDD_0V9, W40 GPIO0_A2/REF_CLKO
part L pins: A38 GPIO1_C2/SPI3_CSN0, A39 GPIO1_C1/SPI3_CLK, AA24 ADC_AVDD, AA27 ADC_IN5, AA28 ADC_IN4, B38 GPIO1_B6/PWM3B_IR, B39 GPIO1_B0/SPI1_TXD/UART4_TX, B40 GPIO1_A5/AP_PWROFF, C39 GPIO1_A4/ISPO0_PRELIGHT_TRIG/ISP1_PRELIGHT_TRIG, C40 GPIO1_A3/ISP0_FALSHTRIGOUT/ISP1_FLASHTRIGOUT, D26 GPIO3_A4/MAC_TXD0/SPI0_RXD, D36 GPIO1_D0/TCPD_VBUS_SOURCE2, D38 GPIO1_B5, D39 GPIO1_A1/ISP0_SHUTTER_TRIG/CPD_CC0_VCONN_EN, D40 GPIO1_A2/ISP0_FLASHTRIGIN/ISP1_FLASHTRIGIN/TCP, E26 GPIO3_A3/MAC_RXD3/SPI4_CSN0, E27 GPIO3_B1/MAC_RXDV, E29 GPIO3_C0/MAC_COL/UART3_CTSN/SPDIF_TX, E30 GPIO3_B7/MAC_CRS/UART3_TX/CIF_CLKOUTB, E38 GPIO1_A6/TSADC_INT, E39 DFTJTAG_TMS, E40 GPIO1_A0/ISP0_SHUTTER_EN/ISP1_SHUTTER_EN/TCPD, F23 GPIO3_B2/MAC_RXER/I2C5_SDA, F24 GPIO3_A0/MAC_TXD2/SPI4_RXD, F26 GPIO3_B6/MAC_RXCLK/UART3_RX, F27 GPIO3_A6/MAC_RXD0/SPI0_CLK, F29 GPIO3_A2/MAC_RXD2/SPI4_CLK, F30 GPIO3_B0/MAC_MDC/SPI0_CSN1, F36 GPIO1_B3/I2C4_SDA, F37 GPIO1_A7/SPI1_RXD/UART4_RX, F38 DFTJTAG_TRSTN, G23 GPIO3_A5/MAC_TXD1/SPI0_TXD, G24  GPIO3_B3/MAC_CLK/I2C5_SCL, G26 GPIO3_B5/MAC_MDIO/UART1_TX, G27 GPIO3_C1/MAC_TXCLK/UART3_RTSN, G35  GPIO1_B4/I2C4_SCL, G36 GPIO1_B1/SPI1_CLK/PMCU_JTAG_TCK, H23 GPIO3_B4/MAC_TXEN/UART1_RX, H24 GPIO3_A1/MAC_TXD3/SPI4_TXD, H27 GPIO3_A7/MAC_RXD1/SPI0_CSN0, H32 GPIO1_C5/I2C8_SCL, H33 GPIO1_C3/PWM2, H35 GPIO1_B2/SPI1_CSN0/PMCU_JTAG_TMS, J22 APIO1_VDDPST, J23 APIO1_VDD, J32 GPIO1_C6/TCPD_VBUS_SOURCE0, J33 GPIO1_C4/I2C8_SDA, J34 GPIO1_B7/SPI3_RXD/I2C0_SDA, K32 GPIO1_C7/TCPD_VBUS_SOURCE1, K33 GPIO1_C0/SPI3_TXD/I2C0_SCL, N24 PMUIO2_VDDPST, P23 PMUIO2_VDD, W27 ADC_IN0, Y27 ADC_IN3, Y28 ADC_IN2, Y29 ADC_IN1
part M pins: AA6 GPIO3_D5/I2S0_SDI2SDO2, AA7 GPIO4_A4/I2S1_LRCK_RX, AA8 APIO5_VDDPST, AB8 APIO3_VDD_1V8, AB24 USIC_AVDD_0V9, AC6 GPIO4_A7/I2S1_SDO0, AC7 GPIO4_A0/I2S_CLK, AC24 USIC_AVDD_1V2, AD6 GPIO4_A6/I2S1_SDI0 , AD8 GPIO2_C4/SDIO0_D0/SPI5_RXD , AD9 GPIO2_D3/SDIO0_PWREN, AE8 GPIO2_C7/SDIO0_D3/SPI5_CSN0 , AE9 GPIO2_C0/UART0_RX, AF3 GPIO4_A3/I2S1_SCLK, AF7 GPIO2_D0/SDIO0_CMD, AF8 GPIO2_D4/SDIO0_BKPWR, AG1 GPIO4_A1/I2C1_SDA, AG3 GPIO3_D0/I2S0_SCLK, AG7 GPIO2_D1/SDIO0_CLKOUT/TEST_CLKOUT1, AG8 GPIO2_C6/SDIO0_D2/SPI5_CLK, AH1 GPIO4_A5/I2S1_LRCK_TX, AH2 GPIO3_D6/I2S0_SDI3SDO1, AJ1 GPIO3_D7/I2S0_SDO0, AJ2 GPIO3_D2/I2S0_LRCK_TX, AJ5 GPIO2_D2/SDIO0_DETN/PCIE_CLKREQN, AJ6 GPIO2_C1/UART0_TX, AK1 GPIO3_D1/I2S0_LRCK_RX, AK6 GPIO2_C5/SDIO0_D1/SPI5_TXD, AK7 GPIO2_C2/UART0_CTSN , AL1 GPIO3_D4/I2S0_SDI1SDO3 , AM6 GPIO2_C3/UART0_RTSN , AT18 USIC_STROBE, AU18 USIC_DATA, D33 GPIO2_A0/VOP_D0/CIF_D0/I2C2_SDA, E32 GPIO2_B4/SPI2_CSN0, E33 GPIO2_A3/VOP_D3/CIF_D3, E34 GPIO2_B3/SPI2_CLK/VOP_DEN/CIF_CLKOUTA, F33 GPIO2_A2/VOP_D2/CIF_D2, G29  GPIO2_A5/VOP_D5/CIF_D5, G30 GPIO2_B1/SPI2_RXD/CIF_HREF/I2C6_SDA, G32 GPIO2_A7/VOP_D7/CIF_D7/I2C7_SDA, G33 GPIO2_A4/VOP_D4/CIF_D4, H26 GPIO2_B2/SPI2_TXD/CIF_CLKIN/I2C6_SCL, H29 GPIO2_A6/VOP_D6/CIF_D64, H30 GPIO2_B0/VOP_CLK/CIF_VSYNC/I2C7_SCL, J24 APIO2_VDDPST, J27 GPIO2_A1/VOP_D1/CIF_D1/I2C2_SCL, J39 XOUT_OSC, J40 NPOR, K23 APIO2_VDD, K40 XIN_OSC, P18 PLL_AVDD_1V8, R17 PLL_AVDD_0V9, T24 EFUSE, Y6 GPIO4_A2/I2C1_SCL, Y7 GPIO3_D3/I2S0_SDI0, Y8 APIO5_VDD
part A text: Power
part B text: DISPLAY
part C text: NPU; POWER
part D text: USB
part E text: DDR0
part F text: DDR1
part G text: PCIe/; eMMC/; SDIO
part H text: NC
part I text: DNU
part J text: GND 1; GND 2; GND 3; GND 4